# Altium schematic symbol library sonar_DAQ.SchLib: 2 symbols
Pins are listed as number, name and electrical type; pins without a type are passive.

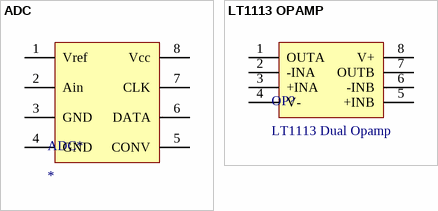
[diagram p0: symbols ADC to LT1113 OPAMP]

## ADC
designator ADC*
ADS7835
pins: 1 Vref (power), 2 Ain (power), 3 GND (power), 4 GND (power), 5 CONV (power), 6 DATA (power), 7 CLK (power), 8 Vcc (power)

## LT1113 OPAMP
designator OP?, comment LT1113 Dual Opamp
pins: 1 OUTA (power), 2 -INA (power), 3 +INA (power), 4 V- (power), 5 +INB (power), 6 -INB (power), 7 OUTB (power), 8 V+ (power)